# Altium footprint library SWITCH_PCB.PcbLib: 1 footprints
Each footprint in its own frame and in the unit in brackets; x right, y up, seen from the top. Pads: shape width x height; smd on the part's side, far side on the other; paste and mask are expansions set on the pad; w line width, h text height; cw(c..) or ccw(c..) is an arc to the next point about the centre after c.
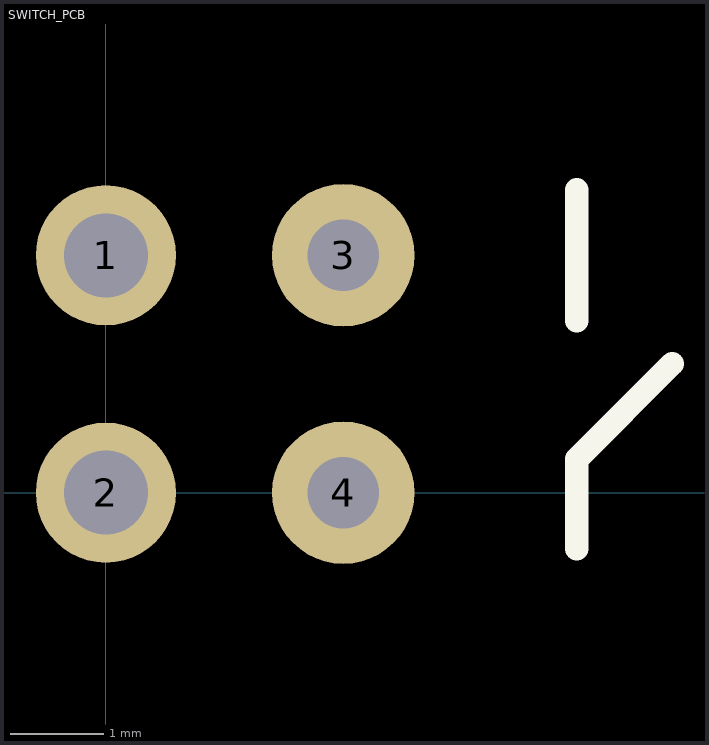
[diagram p0: the footprint, top view; thin cyan lines are the x and y axes]

## SWITCH_PCB [mil]
pads (4):
  round 59.06 hole 35.43: 1(0,100) 2(0,0)
  round 60 hole 30: 3(100,100) 4(100,0)
Top Overlay:
  lines w10: 198.43,-23.62 198.43,12.6 198.43,14.17 238.58,54.33 ; 198.43,72.44 198.43,127.56
3D body "jumper-cap-2.54mm.sldprt": height 352.76, standoff 116.54, extent -49.21,-47.24 49.22,149.61
3D body "jumper-cap-2.54mm.sldprt": height 352.76, standoff 116.54, extent 50.79,-47.24 149.21,149.61
3D body: height 10, standoff 0, extent 274.02,250.39 274.02,250.39
3D body "2pin_header__02.sldprt": height 334.65, standoff -127.95, extent 50,-47.24 150,149.61
3D body "2pin_header__02.sldprt": height 334.65, standoff -127.95, extent -50,-47.24 50,149.61